# EAGLE library part TPS5430 (library ARVP)
TPS5430 5.5V to 36V Input, 3A, 500kHz Step-Down Converter
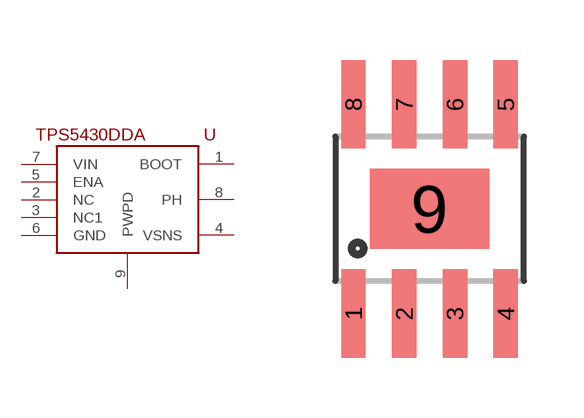
[diagram p21: symbol with the pads of SOIC8-POWERPAD; footprint SOIC8-POWERPAD]

Designator prefix -

## TPS5430DDA  [SOIC8-POWERPAD]
1  BOOT
2  NC  nc
3  NC1  nc
4  VSNS
5  ENA
6  GND  pwr
7  VIN  pwr
8  PH
9  PWPD  pwr

## Footprint SOIC8-POWERPAD (pad centres in mm)
smd 0.61 x 2.21: 1 -1.905,-2.616; 2 -0.635,-2.616; 3 0.635,-2.616; 4 1.905,-2.616; 5 1.905,2.616; 6 0.635,2.616; 7 -0.635,2.616; 8 -1.905,2.616
smd 2.997 x 2: 9 0,0